# EAGLE library part MSP430G2955IRHA40T (library MDB_HOMEBAK)
MIXED SIGNAL MICROCONTROLLERV,QFN-40
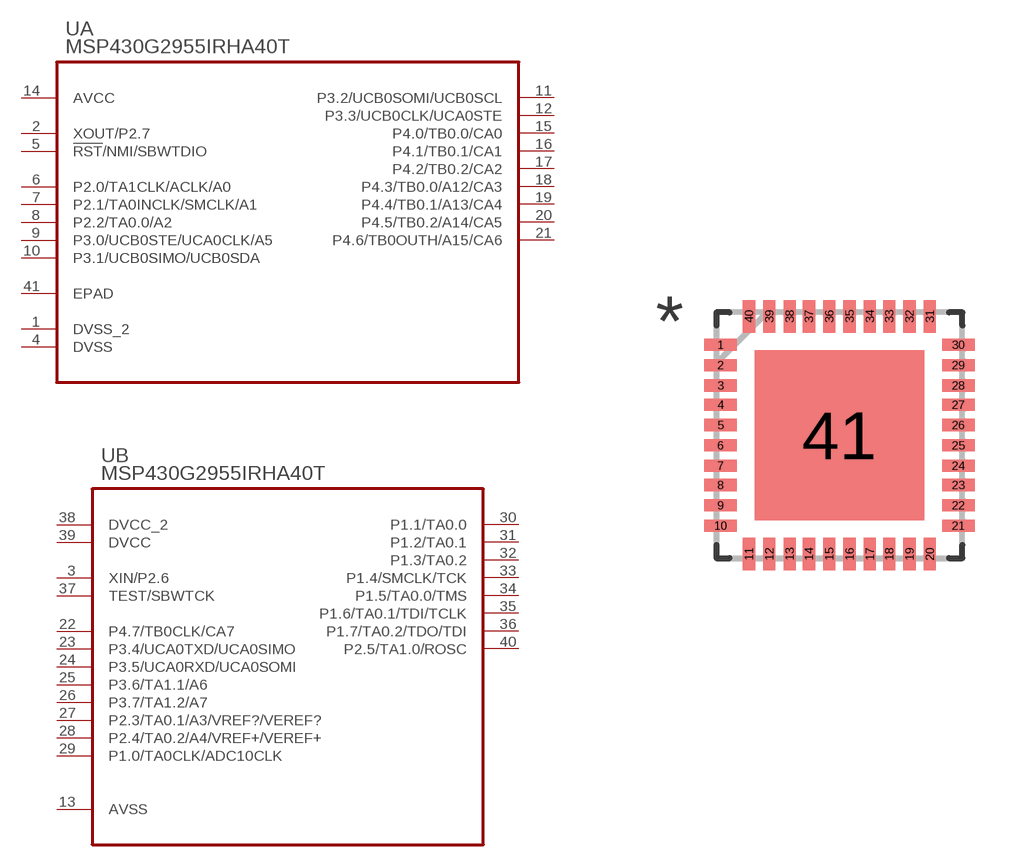
[diagram p53: symbol with the pads of QFN50P600X600X100-41N; footprint QFN50P600X600X100-41N]

Designator prefix U; gates A=MSP430G2955IRHA40T_A B=MSP430G2955IRHA40T_B

## MSP430G2955IRHA40T (MPN: MSP430G2955IRHA40T; OC_FARNELL: 2313744; OC_NEWARK: 86W0530; PACKAGE: VQFN-40; SUPPLIER: TEXAS INSTRUMENTS)  [QFN50P600X600X100-41N]
1  A:DVSS_2  pas
2  A:XOUT/P2.7
3  B:XIN/P2.6
4  A:DVSS  pas
5  A:!RST!/NMI/SBWTDIO  in
6  A:P2.0/TA1CLK/ACLK/A0
7  A:P2.1/TA0INCLK/SMCLK/A1
8  A:P2.2/TA0.0/A2
9  A:P3.0/UCB0STE/UCA0CLK/A5
10  A:P3.1/UCB0SIMO/UCB0SDA
11  A:P3.2/UCB0SOMI/UCB0SCL
12  A:P3.3/UCB0CLK/UCA0STE
13  B:AVSS  pas
14  A:AVCC  pwr
15  A:P4.0/TB0.0/CA0
16  A:P4.1/TB0.1/CA1
17  A:P4.2/TB0.2/CA2
18  A:P4.3/TB0.0/A12/CA3
19  A:P4.4/TB0.1/A13/CA4
20  A:P4.5/TB0.2/A14/CA5
21  A:P4.6/TB0OUTH/A15/CA6
22  B:P4.7/TB0CLK/CA7
23  B:P3.4/UCA0TXD/UCA0SIMO
24  B:P3.5/UCA0RXD/UCA0SOMI
25  B:P3.6/TA1.1/A6
26  B:P3.7/TA1.2/A7
27  B:P2.3/TA0.1/A3/VREF?/VEREF?
28  B:P2.4/TA0.2/A4/VREF+/VEREF+
29  B:P1.0/TA0CLK/ADC10CLK
30  B:P1.1/TA0.0
31  B:P1.2/TA0.1
32  B:P1.3/TA0.2
33  B:P1.4/SMCLK/TCK
34  B:P1.5/TA0.0/TMS
35  B:P1.6/TA0.1/TDI/TCLK
36  B:P1.7/TA0.2/TDO/TDI
37  B:TEST/SBWTCK  in
38  B:DVCC_2  pwr
39  B:DVCC  pwr
40  B:P2.5/TA1.0/ROSC
41  A:EPAD  pas

## Footprint QFN50P600X600X100-41N (pad centres in mm)
smd 0.813 x 0.305: 1 -2.972,2.261; 2 -2.972,1.753; 3 -2.972,1.245; 4 -2.972,0.762; 5 -2.972,0.254; 6 -2.972,-0.254; 7 -2.972,-0.762; 8 -2.972,-1.245; 9 -2.972,-1.753; 10 -2.972,-2.261; 21 2.972,-2.261; 22 2.972,-1.753; 23 2.972,-1.245; 24 2.972,-0.762; 25 2.972,-0.254; 26 2.972,0.254; 27 2.972,0.762; 28 2.972,1.245; 29 2.972,1.753; 30 2.972,2.261
smd 0.305 x 0.813: 11 -2.261,-2.972; 12 -1.753,-2.972; 13 -1.245,-2.972; 14 -0.762,-2.972; 15 -0.254,-2.972; 16 0.254,-2.972; 17 0.762,-2.972; 18 1.245,-2.972; 19 1.753,-2.972; 20 2.261,-2.972; 31 2.261,2.972; 32 1.753,2.972; 33 1.245,2.972; 34 0.762,2.972; 35 0.254,2.972; 36 -0.254,2.972; 37 -0.762,2.972; 38 -1.245,2.972; 39 -1.753,2.972; 40 -2.261,2.972
smd 4.242 x 4.242: 41 0,0